# Altium footprint library BuckBoost-1.PcbLib: 23 footprints (part 2 of 2)
Each footprint in its own frame and in the unit in brackets; x right, y up, seen from the top. Pads: shape width x height; smd on the part's side, far side on the other; paste and mask are expansions set on the pad; w line width, h text height; cw(c..) or ccw(c..) is an arc to the next point about the centre after c.
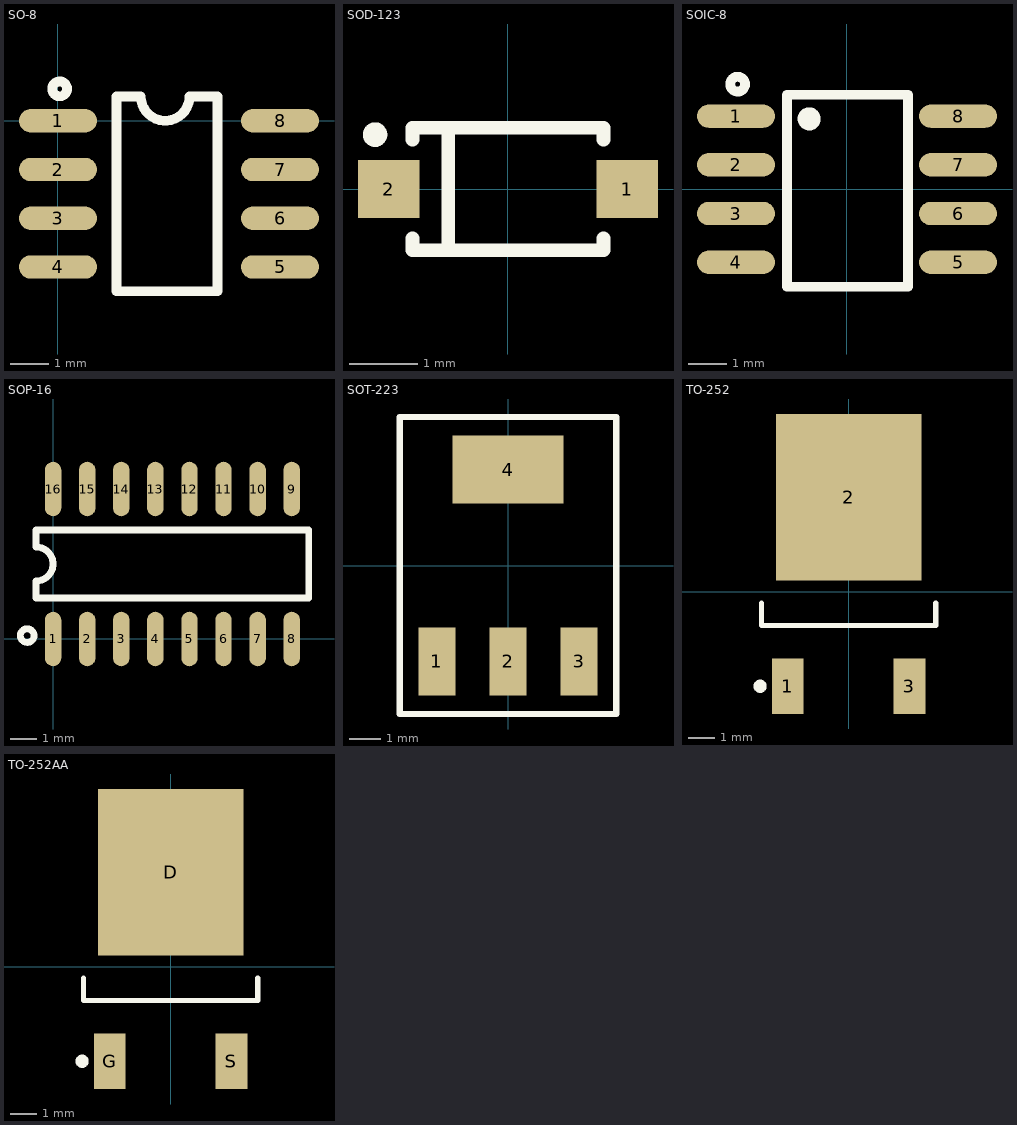
[diagram p1: the footprints below, top view; thin cyan lines are the x and y axes]

## SO-8 [mil]
height 43.31
pads (8):
  oval 80x24 smd: 1(0,0) 2(0,-50) 3(0,-100) 4(0,-150) 5(227.87,-150) 6(227.87,-100) 7(227.87,-50) 8(227.87,0)
Top Overlay:
  circle w10: c1.69,32.75 r7.64
  lines w10: 60,-175 60,25 85,25 ccw(c110,25) 135,25 163.81,25 163.81,-175 60,-175
3D body: height 66.93, standoff 0, extent -4.1,-171.46 232.12,21.46

## SOD-123 [mm]
height 1.1
pads (2):
  rect 0.9x0.85 smd: 1(1.75,0.003) 2(-1.75,0.003)
Top Overlay:
  circle w0.2: c-1.95,0.8 r0.08
  lines w0.2: -1.4,-0.722 -1.4,-0.897 1.4,-0.897 1.4,-0.722 ; -1.4,0.728 -1.4,0.903 1.4,0.903 1.4,0.728 ; -0.878,-0.864 -0.878,0.885
3D body: height 1.25, standoff 0, extent -1.849,-0.8 1.849,0.8

## SOIC-8 [mil]
pads (8):
  oval 80x24 smd: 1(-113.94,75) 2(-113.94,25) 3(-113.94,-25) 4(-113.94,-75) 5(113.94,-75) 6(113.94,-25) 7(113.94,25) 8(113.94,75)
Top Overlay:
  circle w10: c-112.25,107.75 r7.64
  circle w15.75: c-38.82,72.17 r3.94
  lines w10: -61.5,-100 -61.5,96.97 62.52,96.97 62.52,-100 -61.5,-100
3D body: height 66.93, standoff 0, extent -117.24,-98.62 118.98,94.29

## SOP-16 [mil]
height 43.31
pads (16):
  oval 24x80 smd: 1(0,0) 2(50,0) 3(100,0) 4(150,0) 5(200,0) 6(250,0) 7(300,0) 8(350,0) 9(350,220) 10(300,220) 11(250,220) 12(200,220) 13(150,220) 14(100,220) 15(50,220) 16(0,220)
Top Overlay:
  circle w9.84: c-38,5 r10
  lines w10: -25,60 375,60 375,160 -25,160 -25,135 cw(c-25,110) -25,85 -25,60
3D body: height 73.82, standoff 4.39, extent -20.25,-12.8 372.27,228.81

## SOT-223 [mm] "电源芯片-AS1117M3-X"
height 4.6
pads (4):
  rect 1.2x2.2 smd: 1(-2.3,-3.1) 2(0,-3.1) 3(2.3,-3.1)
  rect 3.6x2.2 smd: 4(0,3.1)
Top Overlay:
  lines w0.2: -3.5,-4.8 3.5,-4.8 3.5,4.8 -3.5,4.8 -3.5,-4.8
3D body: height 1.4, standoff -0.28, extent -3.25,-3.5 3.25,3.46

## TO-252 [mm]
height 1.1
pads (3):
  rect 1.2x2.1 smd: 1(-2.3,-3.575) 3(2.3,-3.575)
  rect 5.5x6.3 smd: 2(0,3.575)
Top Overlay:
  circle w0.25: c-3.35,-3.575 r0.125
  lines w0.2: -3.3,-0.425 -3.3,-1.275 3.3,-1.275 3.3,-0.425
3D body: height 2.37, standoff -0.03, extent -3.367,-3.923 3.367,6.177

## TO-252AA [mm]
height 1.1
pads (3):
  rect 5.5x6.3 smd: D(0,3.575)
  rect 1.2x2.1 smd: G(-2.3,-3.575) S(2.3,-3.575)
Top Overlay:
  circle w0.25: c-3.35,-3.575 r0.125
  lines w0.2: -3.3,-0.425 -3.3,-1.275 3.3,-1.275 3.3,-0.425
3D body: height 2.37, standoff -0.03, extent -3.367,-3.923 3.367,6.177